# Altium footprint library telefunken.PCBLIB: 4 footprints
Each footprint in its own frame and in the unit in brackets; x right, y up, seen from the top. Pads: shape width x height; smd on the part's side, far side on the other; paste and mask are expansions set on the pad; w line width, h text height; cw(c..) or ccw(c..) is an arc to the next point about the centre after c.
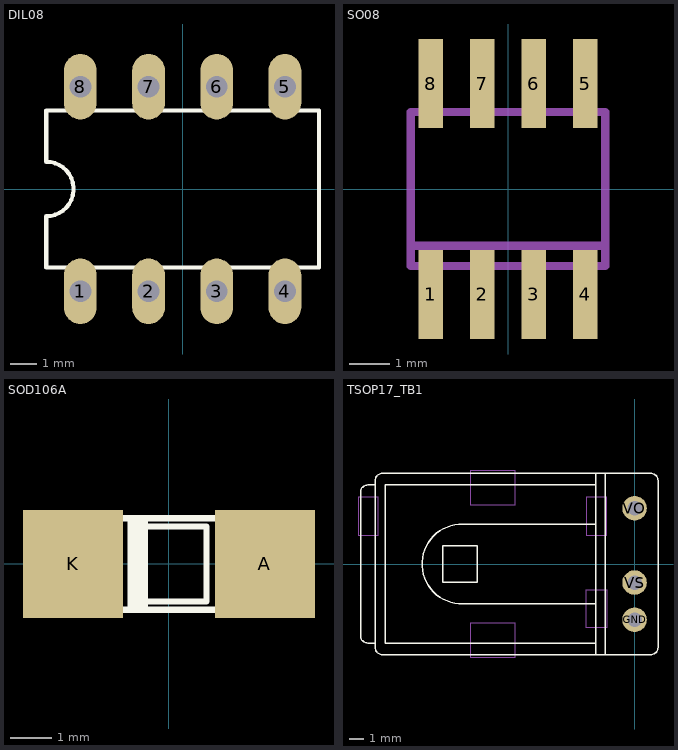
[diagram p0: the footprints below, top view; thin cyan lines are the x and y axes]

## DIL08 [mil]
pads (8):
  oval 48x96 hole 32: 1(-150,-150) 2(-50,-150) 3(50,-150) 4(150,-150) 5(150,150) 6(50,150) 7(-50,150) 8(-150,150)
Top Overlay:
  lines w6: -200,-115 200,-115 200,115 -200,115 -200,40 cw(c-200,0) -200,-40 -200,-115

## SO08 [mil]
pads (8):
  rect 23.62x86.61 smd: 1(-75,-102.36) 2(-25,-102.36) 3(25,-102.36) 4(75,-102.36) 5(75,102.36) 6(25,102.36) 7(-25,102.36) 8(-75,102.36)
Mechanical 16:
  rectangle: -84.65,-122.05 -65.35,-78.74
  rectangle: -34.65,-122.05 -15.35,-78.74
  rectangle: 15.35,-122.05 34.65,-78.74
  rectangle: 65.35,-122.05 84.65,-78.74
  rectangle: 65.35,78.74 84.65,122.05
  rectangle: 15.35,78.74 34.65,122.05
  rectangle: -34.65,78.74 -15.35,122.05
  rectangle: -84.65,78.74 -65.35,122.05
  lines w8: -94.49,-55.12 -94.49,-74.8 94.49,-74.8 94.49,-55.12 ; -94.49,-55.12 -94.49,74.8 94.49,74.8 94.49,-55.12 ; -94.49,-55.12 94.49,-55.12

## SOD106A [mil]
pads (2):
  rect 94.49x102.36 smd: A(90.55,0) K(-90.55,0)
Top Overlay:
  rectangle: -39.37,-43.31 -19.69,43.31
  lines w6: -90.55,-43.31 90.55,-43.31 ; -90.55,43.31 90.55,43.31 ; -35.43,-35.43 -35.43,35.43 35.43,35.43 35.43,-35.43 -35.43,-35.43
Mechanical 16:
  lines w6: -90.55,-43.31 -90.55,43.31 ; 90.55,-43.31 90.55,43.31

## TSOP17_TB1 [mil]
pads (3):
  round 66 hole 39.37: GND(0,-150) VO(0,150) VS(0,-50)
Top Overlay:
  lines w4: -699.8,-212.6 -717.52,-212.6 cw(c-717.51,-192.91) -737.2,-192.91 -737.2,192.91 cw(c-717.51,192.91) -717.52,212.6 -699.8,212.6 ; -106.3,-106.3 -472.44,-106.3 cw(c-465.31,0) -472.44,106.3 -106.3,106.3 ; -104.33,-242.13 -104.33,-212.6 ; -104.33,242.13 -104.33,212.6 ; -78.74,-242.13 -78.74,242.13 ; -104.33,-212.6 -104.33,212.6 ; -104.33,-212.6 -670.28,-212.6 -670.28,212.6 -104.33,212.6 ; -697.83,-224.41 ccw(c-678.15,-224.41) -678.15,-244.09 43.31,-244.09 ccw(c43.31,-224.41) 62.99,-224.41 62.99,224.41 ccw(c43.31,224.41) 43.31,244.09 -678.15,244.09 ccw(c-678.15,224.41) -697.83,224.41 -697.83,-224.41 ; -516.73,-49.21 -423.23,-49.21 -423.23,49.21 -516.73,49.21 -516.73,-49.21
Mechanical 1:
  lines w0: -744.09,76.77 -744.09,179.13 -688.98,179.13 -688.98,76.77 -744.09,76.77 ; -440.94,-251.97 -322.83,-251.97 -322.83,-157.48 -440.94,-157.48 -440.94,-251.97 ; -440.94,157.48 -322.83,157.48 -322.83,251.97 -440.94,251.97 -440.94,157.48 ; -129.92,-171.26 -74.8,-171.26 -74.8,-68.9 -129.92,-68.9 -129.92,-171.26 ; -129.92,76.77 -129.92,179.13 -74.8,179.13 -74.8,76.77 -129.92,76.77